# Altium schematic symbol library G2RL_SERIES.SchLib: 1 symbol
Pins are listed as number, name and electrical type; pins without a type are passive.

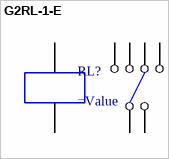
[diagram p0: symbol G2RL-1-E]

## G2RL-1-E
designator RL?
pins: 1 B1, 2 NC1, 3 C1, 4 NA1, 5 NA2 hidden, 6 C2 hidden, 7 NC2 hidden, 8 B2